# EAGLE library part IC-NEW_RTC-PCF85063TP (library openautopihat)
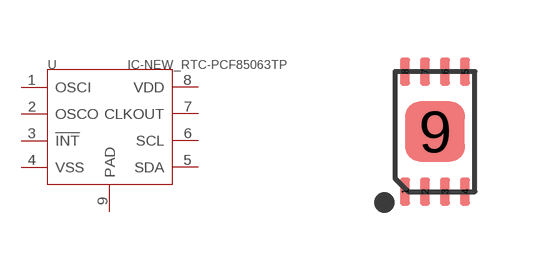
[diagram p4: symbol with the pads of IC-NEW_HWSON8-0.5-2X3X0.75MM; footprint IC-NEW_HWSON8-0.5-2X3X0.75MM]

Designator prefix U

## IC-NEW_RTC-PCF85063TP  [IC-NEW_HWSON8-0.5-2X3X0.75MM]
1  OSCI
2  OSCO
3  !INT
4  VSS
5  SDA
6  SCL
7  CLKOUT
8  VDD
9  PAD

## Footprint IC-NEW_HWSON8-0.5-2X3X0.75MM (pad centres in mm)
smd 0.25 x 0.7: 1 -0.75,-1.5; 2 -0.25,-1.5; 3 0.25,-1.5; 4 0.75,-1.5; 5 0.75,1.5; 6 0.25,1.5; 7 -0.25,1.5; 8 -0.75,1.5
smd 1.5 x 1.5: 9 0,0